# Altium schematic symbol library 18pin_holes.SchLib: 1 symbol
Pins are listed as number, name and electrical type; pins without a type are passive.

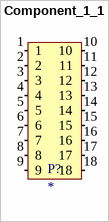
[diagram p0: symbol Component_1_1]

## Component_1_1
designator P?
footprint P? (PicoBlade connector RA 12 way)
pins: 1, 2, 3, 4, 5, 6, 7, 8, 9, 10, 11, 12, 13, 14, 15, 16, 17, 18